# Altium footprint library SMD 7400 Series Components.PcbLib: 32 footprints (part 2 of 2)
Each footprint in its own frame and in the unit in brackets; x right, y up, seen from the top. Pads: shape width x height; smd on the part's side, far side on the other; paste and mask are expansions set on the pad; w line width, h text height; cw(c..) or ccw(c..) is an arc to the next point about the centre after c.
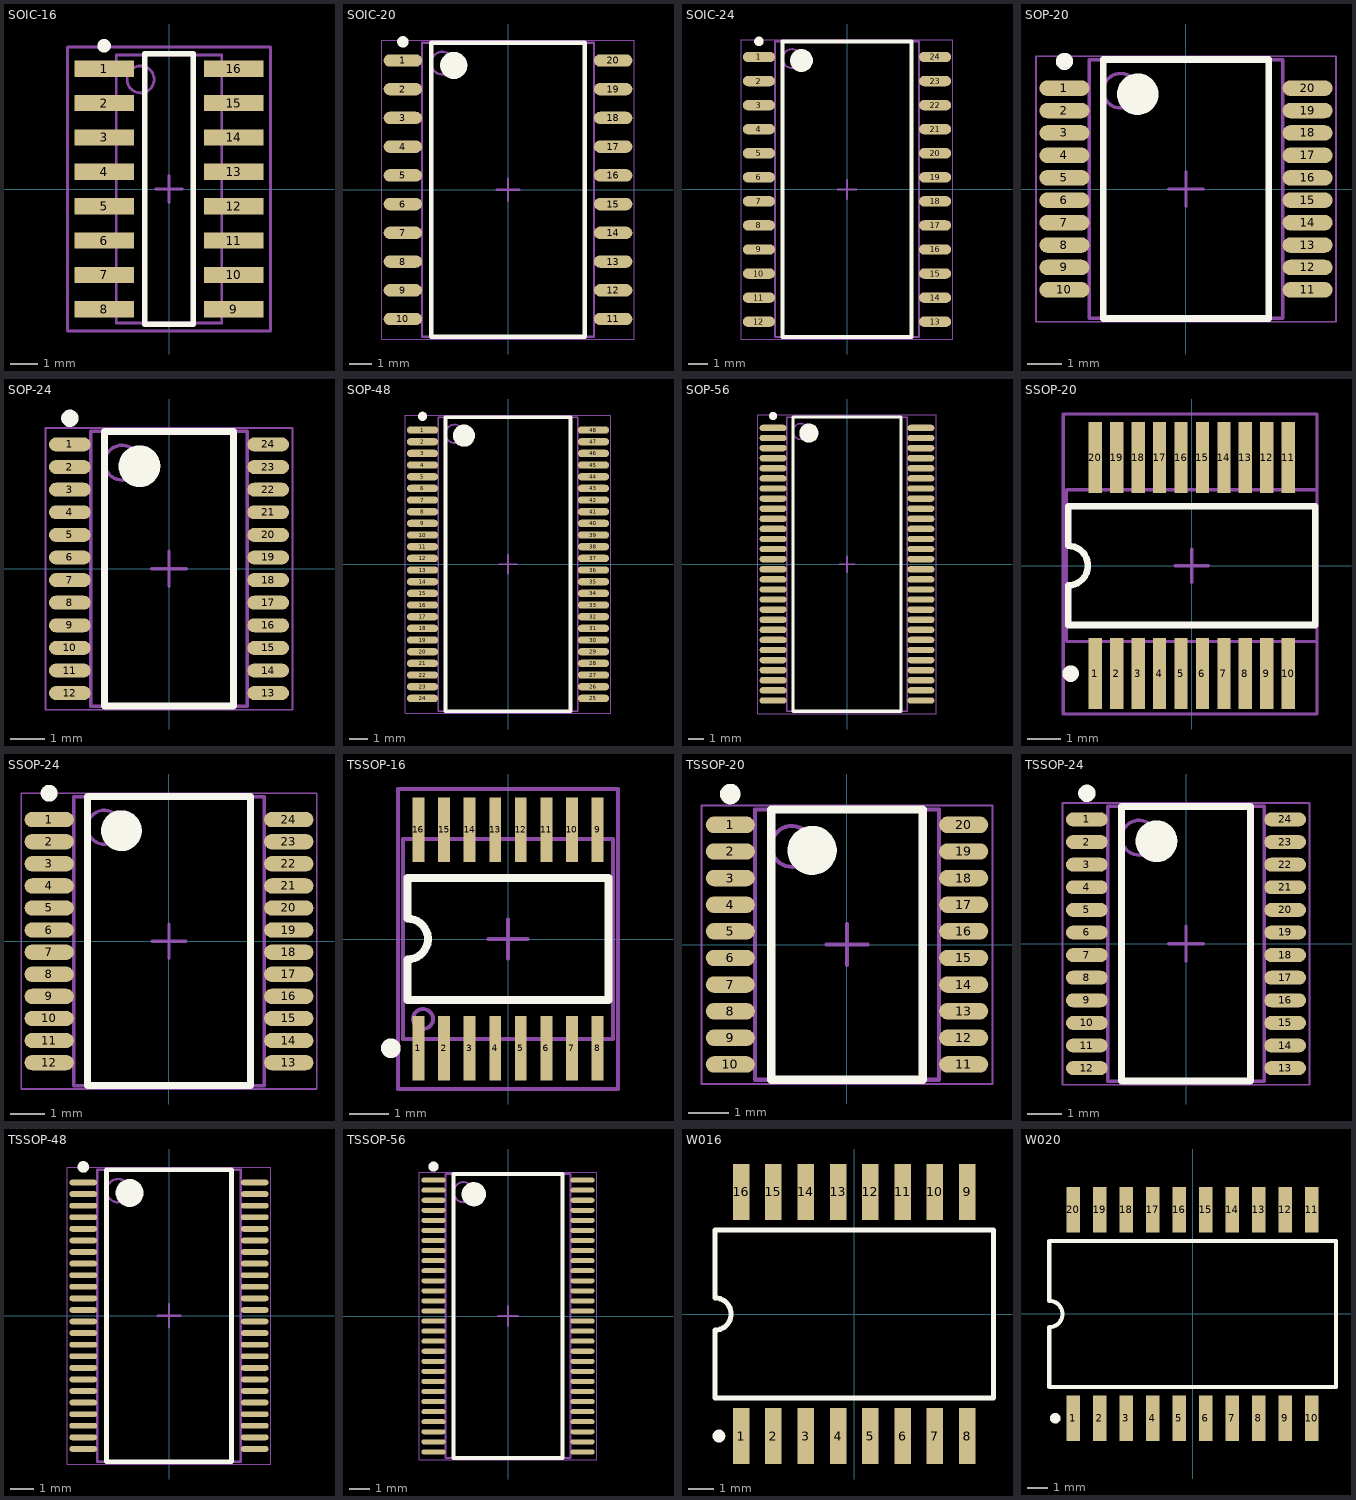
[diagram p1: the footprints below, top view; thin cyan lines are the x and y axes]

## SOIC-16 [mm] "SOIC, 16-Leads, Body 9.9x3.9mm, Pitch 1.27mm, IPC Medium Density"
height 1.75
pads (16):
  rect 2.2x0.6 smd: 1(-2.4,4.445) 2(-2.4,3.175) 3(-2.4,1.905) 4(-2.4,0.635) 5(-2.4,-0.635) 6(-2.4,-1.905) 7(-2.4,-3.175) 8(-2.4,-4.445) 9(2.4,-4.445) 10(2.4,-3.175) 11(2.4,-1.905) 12(2.4,-0.635) 13(2.4,0.635) 14(2.4,1.905) 15(2.4,3.175) 16(2.4,4.445)
Top Overlay:
  circle w0.25: c-2.4,5.295 r0.125
  lines w0.2: -0.9,-5 -0.9,5 0.9,5 0.9,-5 -0.9,-5
Mechanical 13:
  circle w0.1: c-1.05,4.05 r0.5
  lines w0.1: -1.95,-4.95 -1.95,4.95 1.95,4.95 1.95,-4.95 -1.95,-4.95
Mechanical 15:
  lines w0.1: -0.5,0 0.5,0 ; 0,-0.5 0,0.5 ; -3.75,-5.25 -3.75,5.25 3.75,5.25 3.75,-5.25 -3.75,-5.25
3D body "SOIC-16.step": height 1.7, standoff 0, extent -3,-5.1 3,5.1

## SOIC-20 [mm] "SOIC, 20-Leads, Body 13x7.6mm, Pitch 1.27mm, IPC High Density"
height 2.65
pads (20):
  oval 1.7x0.55 smd: 1(-4.65,5.715) 2(-4.65,4.445) 3(-4.65,3.175) 4(-4.65,1.905) 5(-4.65,0.635) 6(-4.65,-0.635) 7(-4.65,-1.905) 8(-4.65,-3.175) 9(-4.65,-4.445) 10(-4.65,-5.715) 11(4.65,-5.715) 12(4.65,-4.445) 13(4.65,-3.175) 14(4.65,-1.905) 15(4.65,-0.635) 16(4.65,0.635) 17(4.65,1.905) 18(4.65,3.175) 19(4.65,4.445) 20(4.65,5.715)
Top Overlay:
  circle w0.25: c-4.65,6.54 r0.125
  circle w0.6: c-2.4,5.5 r0.3
  lines w0.2: -3.4,-6.5 -3.4,6.5 3.4,6.5 3.4,-6.5 -3.4,-6.5
Mechanical 13:
  circle w0.1: c-2.9,5.6 r0.5
  lines w0.1: -3.8,-6.5 -3.8,6.5 3.8,6.5 3.8,-6.5 -3.8,-6.5
Mechanical 15:
  lines w0.05: -5.575,-6.6 -5.575,6.6 5.575,6.6 5.575,-6.6 -5.575,-6.6
  lines w0.1: -0.5,0 0.5,0 ; 0,-0.5 0,0.5
3D body "SOIC-20.step": height 2.32, standoff 0.08, extent -5.067,-6.3 5.067,6.3

## SOIC-24 [mm] "SOIC, 24-Leads, Body 15.6x7.6mm, Pitch 1.27mm, IPC High Density"
height 2.65
pads (24):
  oval 1.7x0.55 smd: 1(-4.65,6.985) 2(-4.65,5.715) 3(-4.65,4.445) 4(-4.65,3.175) 5(-4.65,1.905) 6(-4.65,0.635) 7(-4.65,-0.635) 8(-4.65,-1.905) 9(-4.65,-3.175) 10(-4.65,-4.445) 11(-4.65,-5.715) 12(-4.65,-6.985) 13(4.65,-6.985) 14(4.65,-5.715) 15(4.65,-4.445) 16(4.65,-3.175) 17(4.65,-1.905) 18(4.65,-0.635) 19(4.65,0.635) 20(4.65,1.905) 21(4.65,3.175) 22(4.65,4.445) 23(4.65,5.715) 24(4.65,6.985)
Top Overlay:
  circle w0.6: c-2.4,6.8 r0.3
  circle w0.25: c-4.65,7.81 r0.125
  lines w0.2: -3.4,-7.8 3.4,-7.8 3.4,7.8 -3.4,7.8 -3.4,-7.8
Mechanical 13:
  circle w0.1: c-2.9,6.9 r0.5
  lines w0.1: -3.8,-7.8 3.8,-7.8 3.8,7.8 -3.8,7.8 -3.8,-7.8
Mechanical 15:
  lines w0.05: -5.575,-7.9 5.575,-7.9 5.575,7.9 -5.575,7.9 -5.575,-7.9
  lines w0.1: -0.5,0 0.5,0 ; 0,-0.5 0,0.5
3D body "SOIC-24.STEP": height 2.6, standoff 0, extent -5.2,-7.835 5.2,7.565

## SOP-20 [mm] "SOP, 20-Leads, Body 5.6x7.5mm, Pitch 0.65mm, IPC High Density"
height 2
pads (20):
  oval 1.45x0.45 smd: 1(-3.525,2.925) 2(-3.525,2.275) 3(-3.525,1.625) 4(-3.525,0.975) 5(-3.525,0.325) 6(-3.525,-0.325) 7(-3.525,-0.975) 8(-3.525,-1.625) 9(-3.525,-2.275) 10(-3.525,-2.925) 11(3.525,-2.925) 12(3.525,-2.275) 13(3.525,-1.625) 14(3.525,-0.975) 15(3.525,-0.325) 16(3.525,0.325) 17(3.525,0.975) 18(3.525,1.625) 19(3.525,2.275) 20(3.525,2.925)
Top Overlay:
  circle w0.6: c-1.4,2.75 r0.3
  circle w0.25: c-3.525,3.7 r0.125
  lines w0.2: -2.4,-3.75 2.4,-3.75 2.4,3.75 -2.4,3.75 -2.4,-3.75
Mechanical 13:
  circle w0.1: c-1.9,2.85 r0.5
  lines w0.1: -2.8,-3.75 2.8,-3.75 2.8,3.75 -2.8,3.75 -2.8,-3.75
Mechanical 15:
  lines w0.05: -4.35,-3.85 4.35,-3.85 4.35,3.85 -4.35,3.85 -4.35,-3.85
  lines w0.1: -0.5,0 0.5,0 ; 0,-0.5 0,0.5
3D body "DB0020A.stp": height 2, standoff -0.03, extent -3.913,-3.6 3.913,3.6

## SOP-24 [mm] "SOP, 24-Leads, Body 7.9x4.5mm, Pitch 0.65mm, IPC High Density"
height 1.2
pads (24):
  oval 1.2x0.4 smd: 1(-2.85,3.575) 2(-2.85,2.925) 3(-2.85,2.275) 4(-2.85,1.625) 5(-2.85,0.975) 6(-2.85,0.325) 7(-2.85,-0.325) 8(-2.85,-0.975) 9(-2.85,-1.625) 10(-2.85,-2.275) 11(-2.85,-2.925) 12(-2.85,-3.575) 13(2.85,-3.575) 14(2.85,-2.925) 15(2.85,-2.275) 16(2.85,-1.625) 17(2.85,-0.975) 18(2.85,-0.325) 19(2.85,0.325) 20(2.85,0.975) 21(2.85,1.625) 22(2.85,2.275) 23(2.85,2.925) 24(2.85,3.575)
Top Overlay:
  circle w0.25: c-2.85,4.325 r0.125
  circle w0.6: c-0.85,2.95 r0.3
  lines w0.2: -1.85,-3.95 -1.85,3.95 1.85,3.95 1.85,-3.95 -1.85,-3.95
Mechanical 13:
  circle w0.1: c-1.35,3.05 r0.5
  lines w0.1: -2.25,-3.95 -2.25,3.95 2.25,3.95 2.25,-3.95 -2.25,-3.95
Mechanical 15:
  lines w0.05: -3.55,-4.05 -3.55,4.05 3.55,4.05 3.55,-4.05 -3.55,-4.05
  lines w0.1: -0.5,0 0.5,0 ; 0,-0.5 0,0.5
3D body "PW0024AakaMTC24.stp": height 1.2, standoff 0, extent -3.21,-3.9 3.21,3.9

## SOP-48 [mm] "SOP, 48-Leads, Body 7.6x16mm, Pitch 0.635mm, IPC High Density"
height 2.79
pads (48):
  oval 1.7x0.4 smd: 1(-4.65,7.302) 2(-4.65,6.667) 3(-4.65,6.032) 4(-4.65,5.397) 5(-4.65,4.763) 6(-4.65,4.127) 7(-4.65,3.492) 8(-4.65,2.857) 9(-4.65,2.222) 10(-4.65,1.587) 11(-4.65,0.953) 12(-4.65,0.318) 13(-4.65,-0.318) 14(-4.65,-0.953) 15(-4.65,-1.587) 16(-4.65,-2.222) 17(-4.65,-2.857) 18(-4.65,-3.492) 19(-4.65,-4.127) 20(-4.65,-4.763) 21(-4.65,-5.397) 22(-4.65,-6.032) 23(-4.65,-6.667) 24(-4.65,-7.302) 25(4.65,-7.302) 26(4.65,-6.667) 27(4.65,-6.032) 28(4.65,-5.397) 29(4.65,-4.763) 30(4.65,-4.127) 31(4.65,-3.492) 32(4.65,-2.857) 33(4.65,-2.222) 34(4.65,-1.587) 35(4.65,-0.953) 36(4.65,-0.318) 37(4.65,0.318) 38(4.65,0.953) 39(4.65,1.587) 40(4.65,2.222) 41(4.65,2.857) 42(4.65,3.492) 43(4.65,4.127) 44(4.65,4.763) 45(4.65,5.397) 46(4.65,6.032) 47(4.65,6.667) 48(4.65,7.302)
Top Overlay:
  circle w0.6: c-2.4,7 r0.3
  circle w0.25: c-4.65,8.053 r0.125
  lines w0.2: -3.4,-8 3.4,-8 3.4,8 -3.4,8 -3.4,-8
Mechanical 13:
  circle w0.1: c-2.9,7.1 r0.5
  lines w0.1: -3.8,-8 3.8,-8 3.8,8 -3.8,8 -3.8,-8
Mechanical 15:
  lines w0.05: -5.6,-8.1 5.6,-8.1 5.6,8.1 -5.6,8.1 -5.6,-8.1
  lines w0.1: -0.5,0 0.5,0 ; 0,-0.5 0,0.5
3D body "DL0048AakaMS48A.stp": height 2.79, standoff 0, extent -5.176,-7.937 5.176,7.937

## SOP-56 [mm] "SOP, 56-Leads, Body 7.6x18.5mm, Pitch 0.635mm, IPC High Density"
height 2.79
pads (56):
  oval 1.7x0.4 smd: 1(-4.65,8.572) 2(-4.65,7.938) 3(-4.65,7.302) 4(-4.65,6.667) 5(-4.65,6.032) 6(-4.65,5.397) 7(-4.65,4.763) 8(-4.65,4.127) 9(-4.65,3.492) 10(-4.65,2.857) 11(-4.65,2.222) 12(-4.65,1.587) 13(-4.65,0.953) 14(-4.65,0.318) 15(-4.65,-0.318) 16(-4.65,-0.953) 17(-4.65,-1.587) 18(-4.65,-2.222) 19(-4.65,-2.857) 20(-4.65,-3.492) 21(-4.65,-4.127) 22(-4.65,-4.763) 23(-4.65,-5.397) 24(-4.65,-6.032) 25(-4.65,-6.667) 26(-4.65,-7.302) 27(-4.65,-7.938) 28(-4.65,-8.572) 29(4.65,-8.572) 30(4.65,-7.938) 31(4.65,-7.302) 32(4.65,-6.667) 33(4.65,-6.032) 34(4.65,-5.397) 35(4.65,-4.763) 36(4.65,-4.127) 37(4.65,-3.492) 38(4.65,-2.857) 39(4.65,-2.222) 40(4.65,-1.587) 41(4.65,-0.953) 42(4.65,-0.318) 43(4.65,0.318) 44(4.65,0.953) 45(4.65,1.587) 46(4.65,2.222) 47(4.65,2.857) 48(4.65,3.492) 49(4.65,4.127) 50(4.65,4.763) 51(4.65,5.397) 52(4.65,6.032) 53(4.65,6.667) 54(4.65,7.302) 55(4.65,7.938) 56(4.65,8.572)
Top Overlay:
  circle w0.25: c-4.65,9.323 r0.125
  circle w0.6: c-2.4,8.25 r0.3
  lines w0.2: -3.4,-9.25 -3.4,9.25 3.4,9.25 3.4,-9.25 -3.4,-9.25
Mechanical 13:
  circle w0.1: c-2.9,8.35 r0.5
  lines w0.1: -3.8,-9.25 -3.8,9.25 3.8,9.25 3.8,-9.25 -3.8,-9.25
Mechanical 15:
  lines w0.05: -5.6,-9.4 -5.6,9.4 5.6,9.4 5.6,-9.4 -5.6,-9.4
  lines w0.1: -0.5,0 0.5,0 ; 0,-0.5 0,0.5
3D body "DL0056A.stp": height 2.79, standoff 0, extent -5.197,-9.207 5.197,9.208

## SSOP-20 [mm] "SSOP, Plastic; 20 Leads; Body Width 5.3 mm; Pitch 0.65 mm"
height 2
pads (20):
  rect 0.4x2.15 smd: 1(-2.925,-3.275) 2(-2.275,-3.275) 3(-1.625,-3.275) 4(-0.975,-3.275) 5(-0.325,-3.275) 6(0.325,-3.275) 7(0.975,-3.275) 8(1.625,-3.275) 9(2.275,-3.275) 10(2.925,-3.275) 11(2.925,3.275) 12(2.275,3.275) 13(1.625,3.275) 14(0.975,3.275) 15(0.325,3.275) 16(-0.325,3.275) 17(-0.975,3.275) 18(-1.625,3.275) 19(-2.275,3.275) 20(-2.925,3.275)
Top Overlay:
  circle w0.25: c-3.675,-3.275 r0.125
  lines w0.2: -3.75,-1.8 3.75,-1.8 3.75,1.8 -3.75,1.8 -3.75,0.6 cw(c-3.75,0) -3.75,-0.6 -3.75,-1.8
Mechanical 13:
  lines w0.1: -3.8,-2.3 3.8,-2.3 3.8,2.3 -3.8,2.3 -3.8,-2.3
Mechanical 15:
  lines w0.1: -0.5,0 0.5,0 ; 0,-0.5 0,0.5 ; -3.9,-4.5 -3.9,4.6 3.8,4.6 3.8,-4.5 -3.9,-4.5
3D body "SSOP-20.STEP": height 1.92, standoff -0.05, extent -3.6,-3.91 3.6,3.911

## SSOP-24 [mm] "SOP, 24-Leads, Body 5.6x8.5mm, Pitch 0.65mm, IPC High Density"
height 2
pads (24):
  oval 1.45x0.45 smd: 1(-3.525,3.575) 2(-3.525,2.925) 3(-3.525,2.275) 4(-3.525,1.625) 5(-3.525,0.975) 6(-3.525,0.325) 7(-3.525,-0.325) 8(-3.525,-0.975) 9(-3.525,-1.625) 10(-3.525,-2.275) 11(-3.525,-2.925) 12(-3.525,-3.575) 13(3.525,-3.575) 14(3.525,-2.925) 15(3.525,-2.275) 16(3.525,-1.625) 17(3.525,-0.975) 18(3.525,-0.325) 19(3.525,0.325) 20(3.525,0.975) 21(3.525,1.625) 22(3.525,2.275) 23(3.525,2.925) 24(3.525,3.575)
Top Overlay:
  circle w0.25: c-3.525,4.35 r0.125
  circle w0.6: c-1.4,3.25 r0.3
  lines w0.2: -2.4,-4.25 -2.4,4.25 2.4,4.25 2.4,-4.25 -2.4,-4.25
Mechanical 13:
  circle w0.1: c-1.9,3.35 r0.5
  lines w0.1: -2.8,-4.25 -2.8,4.25 2.8,4.25 2.8,-4.25 -2.8,-4.25
Mechanical 15:
  lines w0.05: -4.35,-4.35 -4.35,4.35 4.35,4.35 4.35,-4.35 -4.35,-4.35
  lines w0.1: -0.5,0 0.5,0 ; 0,-0.5 0,0.5
3D body "SSOP-24.step": height 2.04, standoff 0.05, extent -3.95,-4.315 3.95,4.315

## TSSOP-16 [mm] "Shrink Small Outline; 16 Leads; Body Width 4.4 mm; Pitch 0.65 mm"
height 1.2
pads (16):
  rect 0.3x1.65 smd: 1(-2.275,-2.775) 2(-1.625,-2.775) 3(-0.975,-2.775) 4(-0.325,-2.775) 5(0.325,-2.775) 6(0.975,-2.775) 7(1.625,-2.775) 8(2.275,-2.775) 9(2.275,2.775) 10(1.625,2.775) 11(0.975,2.775) 12(0.325,2.775) 13(-0.325,2.775) 14(-0.975,2.775) 15(-1.625,2.775) 16(-2.275,2.775)
Top Overlay:
  circle w0.25: c-2.975,-2.775 r0.125
  lines w0.2: -2.55,-1.55 -2.55,-0.517 ccw(c-2.55,0) -2.55,0.517 -2.55,1.55 2.55,1.55 2.55,-1.55 -2.55,-1.55
Mechanical 13:
  circle w0.1: c-2.159,-2.032 r0.254
  lines w0.1: -2.667,-2.54 -2.667,2.54 2.667,2.54 2.667,-2.54 -2.667,-2.54
Mechanical 15:
  lines w0.1: -0.5,0 0.5,0 ; 0,-0.5 0,0.5 ; -2.794,-3.81 2.794,-3.81 2.794,3.81 -2.794,3.81 -2.794,-3.81
3D body: height 0.92, standoff -1.03, extent -4.572,1.524 -4.572,1.524
3D body "TSSOP-16.STEP": height 0.97, standoff -0.13, extent -2.5,-3.21 2.5,3.211

## TSSOP-20 [mm] "SOP, 20-Leads, Body 6.6x4.5mm, Pitch 0.65mm, IPC High Density"
height 1.2
pads (20):
  oval 1.2x0.4 smd: 1(-2.85,2.925) 2(-2.85,2.275) 3(-2.85,1.625) 4(-2.85,0.975) 5(-2.85,0.325) 6(-2.85,-0.325) 7(-2.85,-0.975) 8(-2.85,-1.625) 9(-2.85,-2.275) 10(-2.85,-2.925) 11(2.85,-2.925) 12(2.85,-2.275) 13(2.85,-1.625) 14(2.85,-0.975) 15(2.85,-0.325) 16(2.85,0.325) 17(2.85,0.975) 18(2.85,1.625) 19(2.85,2.275) 20(2.85,2.925)
Top Overlay:
  circle w0.6: c-0.85,2.3 r0.3
  circle w0.25: c-2.85,3.675 r0.125
  lines w0.2: -1.85,-3.3 1.85,-3.3 1.85,3.3 -1.85,3.3 -1.85,-3.3
Mechanical 13:
  circle w0.1: c-1.35,2.4 r0.5
  lines w0.1: -2.25,-3.3 2.25,-3.3 2.25,3.3 -2.25,3.3 -2.25,-3.3
Mechanical 15:
  lines w0.05: -3.55,-3.4 3.55,-3.4 3.55,3.4 -3.55,3.4 -3.55,-3.4
  lines w0.1: -0.5,0 0.5,0 ; 0,-0.5 0,0.5
3D body "PW0020AakaMTC20.stp": height 1.2, standoff 0, extent -3.21,-3.25 3.21,3.25

## TSSOP-24 [mm] "SOP, 24-Leads, Body 7.9x4.5mm, Pitch 0.65mm, IPC High Density"
height 1.2
pads (24):
  oval 1.2x0.4 smd: 1(-2.85,3.575) 2(-2.85,2.925) 3(-2.85,2.275) 4(-2.85,1.625) 5(-2.85,0.975) 6(-2.85,0.325) 7(-2.85,-0.325) 8(-2.85,-0.975) 9(-2.85,-1.625) 10(-2.85,-2.275) 11(-2.85,-2.925) 12(-2.85,-3.575) 13(2.85,-3.575) 14(2.85,-2.925) 15(2.85,-2.275) 16(2.85,-1.625) 17(2.85,-0.975) 18(2.85,-0.325) 19(2.85,0.325) 20(2.85,0.975) 21(2.85,1.625) 22(2.85,2.275) 23(2.85,2.925) 24(2.85,3.575)
Top Overlay:
  circle w0.6: c-0.85,2.95 r0.3
  circle w0.25: c-2.85,4.325 r0.125
  lines w0.2: -1.85,-3.95 1.85,-3.95 1.85,3.95 -1.85,3.95 -1.85,-3.95
Mechanical 13:
  circle w0.1: c-1.35,3.05 r0.5
  lines w0.1: -2.25,-3.95 2.25,-3.95 2.25,3.95 -2.25,3.95 -2.25,-3.95
Mechanical 15:
  lines w0.05: -3.55,-4.05 3.55,-4.05 3.55,4.05 -3.55,4.05 -3.55,-4.05
  lines w0.1: -0.5,0 0.5,0 ; 0,-0.5 0,0.5
3D body "PW0024AakaMTC24.stp": height 1.2, standoff 0, extent -3.21,-3.9 3.21,3.9

## TSSOP-48 [mm] "TSSOP, 48-Leads, Body 12.6x6.2mm, Pitch 0.5mm, IPC High Density"
height 1.2
pads (48):
  oval 1.2x0.25 smd: 1(-3.7,5.75) 2(-3.7,5.25) 3(-3.7,4.75) 4(-3.7,4.25) 5(-3.7,3.75) 6(-3.7,3.25) 7(-3.7,2.75) 8(-3.7,2.25) 9(-3.7,1.75) 10(-3.7,1.25) 11(-3.7,0.75) 12(-3.7,0.25) 13(-3.7,-0.25) 14(-3.7,-0.75) 15(-3.7,-1.25) 16(-3.7,-1.75) 17(-3.7,-2.25) 18(-3.7,-2.75) 19(-3.7,-3.25) 20(-3.7,-3.75) 21(-3.7,-4.25) 22(-3.7,-4.75) 23(-3.7,-5.25) 24(-3.7,-5.75) 25(3.7,-5.75) 26(3.7,-5.25) 27(3.7,-4.75) 28(3.7,-4.25) 29(3.7,-3.75) 30(3.7,-3.25) 31(3.7,-2.75) 32(3.7,-2.25) 33(3.7,-1.75) 34(3.7,-1.25) 35(3.7,-0.75) 36(3.7,-0.25) 37(3.7,0.25) 38(3.7,0.75) 39(3.7,1.25) 40(3.7,1.75) 41(3.7,2.25) 42(3.7,2.75) 43(3.7,3.25) 44(3.7,3.75) 45(3.7,4.25) 46(3.7,4.75) 47(3.7,5.25) 48(3.7,5.75)
Top Overlay:
  circle w0.6: c-1.7,5.3 r0.3
  circle w0.25: c-3.7,6.425 r0.125
  lines w0.2: -2.7,-6.3 2.7,-6.3 2.7,6.3 -2.7,6.3 -2.7,-6.3
Mechanical 13:
  circle w0.1: c-2.2,5.4 r0.5
  lines w0.1: -3.1,-6.3 3.1,-6.3 3.1,6.3 -3.1,6.3 -3.1,-6.3
Mechanical 15:
  lines w0.05: -4.4,-6.4 4.4,-6.4 4.4,6.4 -4.4,6.4 -4.4,-6.4
  lines w0.1: -0.5,0 0.5,0 ; 0,-0.5 0,0.5
3D body "DGG0048A.stp": height 1.2, standoff 0, extent -4.06,-6.25 4.06,6.25

## TSSOP-56 [mm] "TSSOP, 56-Leads, Body 14.1x6.2mm, Pitch 0.5mm, IPC High Density"
height 1.2
pads (56):
  oval 1.2x0.25 smd: 1(-3.7,6.75) 2(-3.7,6.25) 3(-3.7,5.75) 4(-3.7,5.25) 5(-3.7,4.75) 6(-3.7,4.25) 7(-3.7,3.75) 8(-3.7,3.25) 9(-3.7,2.75) 10(-3.7,2.25) 11(-3.7,1.75) 12(-3.7,1.25) 13(-3.7,0.75) 14(-3.7,0.25) 15(-3.7,-0.25) 16(-3.7,-0.75) 17(-3.7,-1.25) 18(-3.7,-1.75) 19(-3.7,-2.25) 20(-3.7,-2.75) 21(-3.7,-3.25) 22(-3.7,-3.75) 23(-3.7,-4.25) 24(-3.7,-4.75) 25(-3.7,-5.25) 26(-3.7,-5.75) 27(-3.7,-6.25) 28(-3.7,-6.75) 29(3.7,-6.75) 30(3.7,-6.25) 31(3.7,-5.75) 32(3.7,-5.25) 33(3.7,-4.75) 34(3.7,-4.25) 35(3.7,-3.75) 36(3.7,-3.25) 37(3.7,-2.75) 38(3.7,-2.25) 39(3.7,-1.75) 40(3.7,-1.25) 41(3.7,-0.75) 42(3.7,-0.25) 43(3.7,0.25) 44(3.7,0.75) 45(3.7,1.25) 46(3.7,1.75) 47(3.7,2.25) 48(3.7,2.75) 49(3.7,3.25) 50(3.7,3.75) 51(3.7,4.25) 52(3.7,4.75) 53(3.7,5.25) 54(3.7,5.75) 55(3.7,6.25) 56(3.7,6.75)
Top Overlay:
  circle w0.6: c-1.7,6.05 r0.3
  circle w0.25: c-3.7,7.425 r0.125
  lines w0.2: -2.7,-7.05 2.7,-7.05 2.7,7.05 -2.7,7.05 -2.7,-7.05
Mechanical 13:
  circle w0.1: c-2.2,6.15 r0.5
  lines w0.1: -3.1,-7.05 3.1,-7.05 3.1,7.05 -3.1,7.05 -3.1,-7.05
Mechanical 15:
  lines w0.05: -4.4,-7.15 4.4,-7.15 4.4,7.15 -4.4,7.15 -4.4,-7.15
  lines w0.1: -0.5,0 0.5,0 ; 0,-0.5 0,0.5
3D body "DGG0056A.stp": height 1.2, standoff 0, extent -4.06,-7 4.06,7

## W016 [mm] "DFP; 16 Leads; Body 10.9 x 7.2 mm (LxW max); Pitch 1.27 mm"
height 2.03
pads (16):
  rect 0.65x2.2 smd: 1(-4.445,-4.8) 2(-3.175,-4.8) 3(-1.905,-4.8) 4(-0.635,-4.8) 5(0.635,-4.8) 6(1.905,-4.8) 7(3.175,-4.8) 8(4.445,-4.8) 9(4.445,4.8) 10(3.175,4.8) 11(1.905,4.8) 12(0.635,4.8) 13(-0.635,4.8) 14(-1.905,4.8) 15(-3.175,4.8) 16(-4.445,4.8)
Top Overlay:
  circle w0.25: c-5.32,-4.8 r0.125
  lines w0.2: -5.475,-3.3 5.475,-3.3 5.475,3.3 -5.475,3.3 -5.475,0.635 cw(c-5.475,0) -5.475,-0.635 -5.475,-3.3
3D body "SOIC-16 SiLabs Wide.STEP": height 2.65, standoff 0, extent -5.15,-5.164 5.15,5.164

## W020 [mm] "DFP; 20 Leads; Body 13.7 x 7.6 mm (LxW max); Pitch 1.27 mm"
height 2.54
pads (20):
  rect 0.65x2.2 smd: 1(-5.715,-5) 2(-4.445,-5) 3(-3.175,-5) 4(-1.905,-5) 5(-0.635,-5) 6(0.635,-5) 7(1.905,-5) 8(3.175,-5) 9(4.445,-5) 10(5.715,-5) 11(5.715,5) 12(4.445,5) 13(3.175,5) 14(1.905,5) 15(0.635,5) 16(-0.635,5) 17(-1.905,5) 18(-3.175,5) 19(-4.445,5) 20(-5.715,5)
Top Overlay:
  circle w0.25: c-6.59,-5 r0.125
  lines w0.2: -6.875,-3.5 -6.875,-0.635 ccw(c-6.875,0) -6.875,0.635 -6.875,3.5 6.875,3.5 6.875,-3.5 -6.875,-3.5
3D body "SOIC-20.step": height 2.06, standoff -0.18, extent -6.3,-5.067 6.3,5.067